# Altium footprint library Connector_Samtec_HPM_THT.PcbLib: 38 footprints (part 1 of 3)
Each footprint in its own frame and in the unit in brackets; x right, y up, seen from the top. Pads: shape width x height; smd on the part's side, far side on the other; paste and mask are expansions set on the pad; w line width, h text height; cw(c..) or ccw(c..) is an arc to the next point about the centre after c.
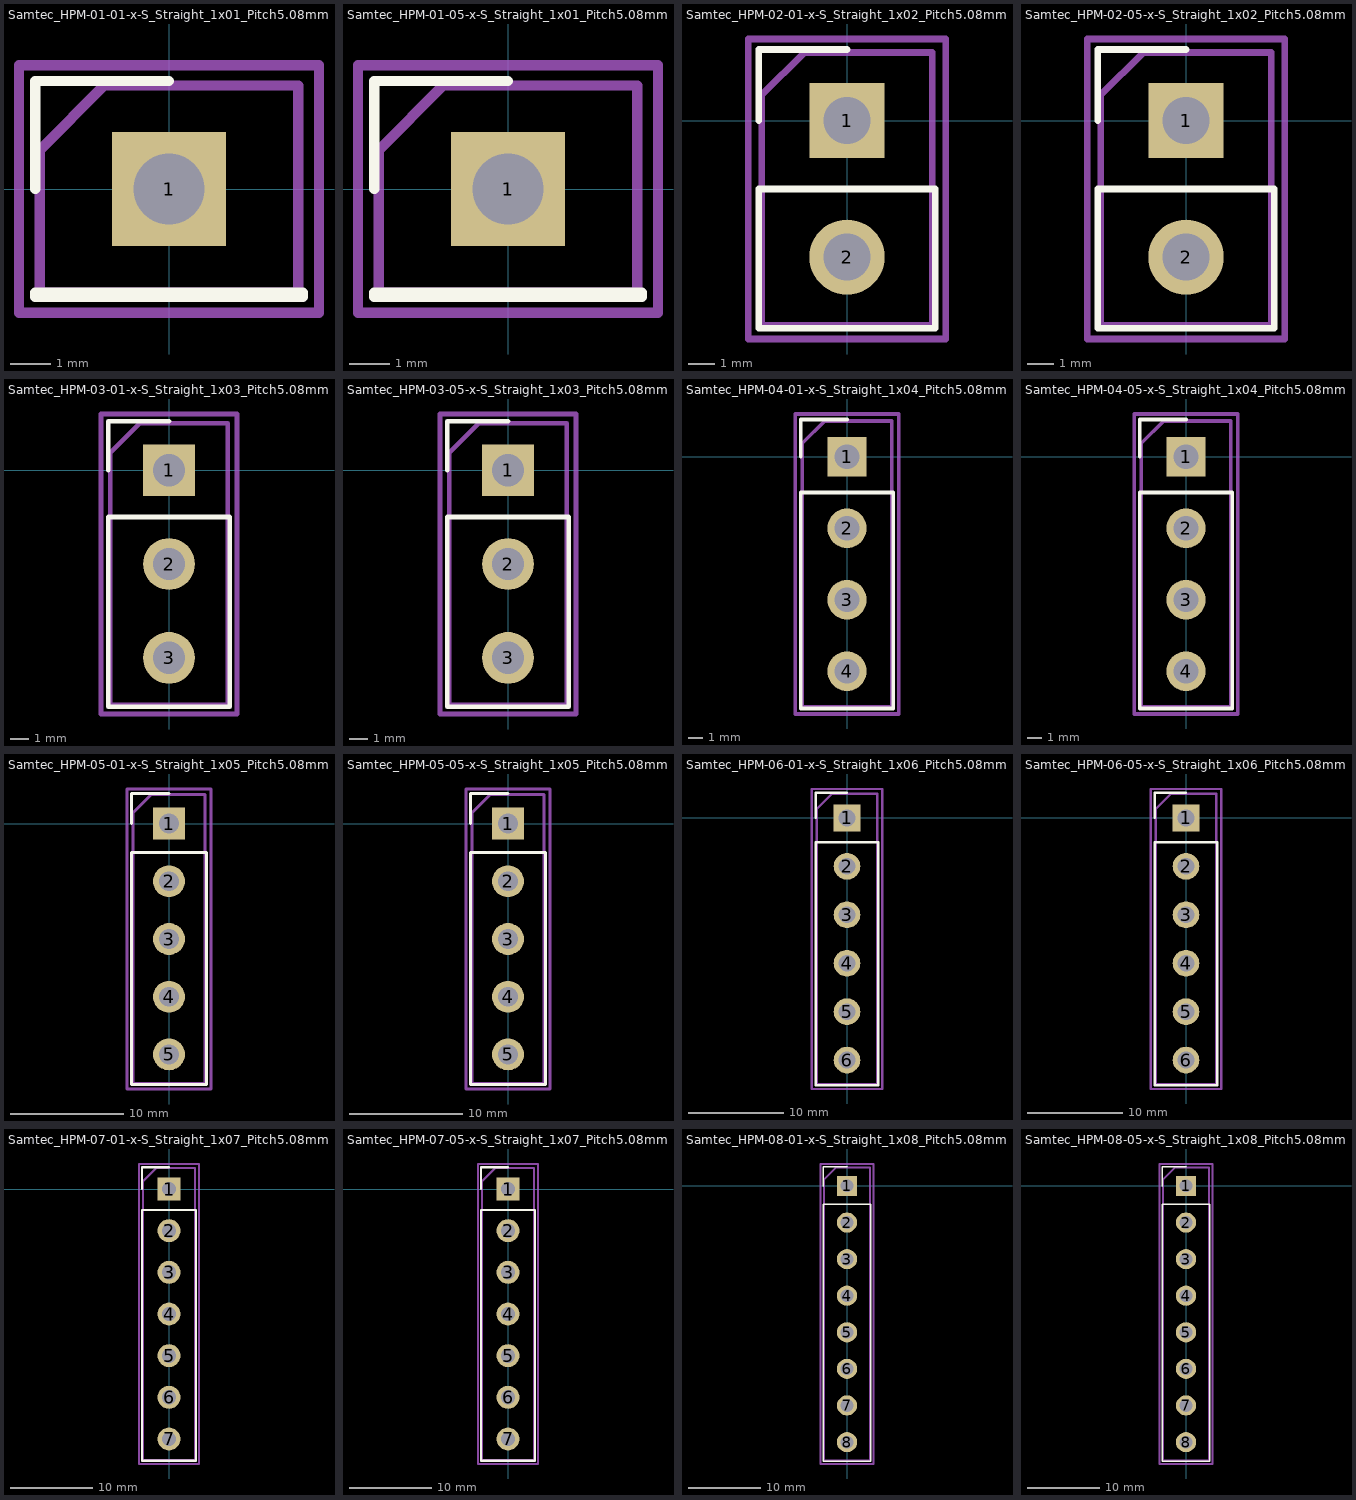
[diagram p0: the footprints below, top view; thin cyan lines are the x and y axes]

## Samtec_HPM-01-01-x-S_Straight_1x01_Pitch5.08mm [mm]
pads (1):
  rect 2.8x2.8 hole 1.75: 1(0,0)
F.SilkS:
  lines w0.254: -3.285,0 -3.285,2.65 0,2.65 ; -3.285,-2.65 -3.285,-2.54 3.285,-2.54 3.285,-2.65 -3.285,-2.65
Top Assembly:
  lines w0.254: -3.175,-2.54 -3.175,0.953 -1.587,2.54 3.175,2.54 3.175,-2.54 -3.175,-2.54
  text "'.Designator'" at 0.84,-4.047 h1
Top Courtyard:
  lines w0.254: -3.68,-3.04 -3.68,3.04 3.68,3.04 3.68,-3.04 -3.68,-3.04
Top Designator:
  text ".Designator" at -7.618,-0.658 h1.52

## Samtec_HPM-01-05-x-S_Straight_1x01_Pitch5.08mm [mm]
pads (1):
  rect 2.8x2.8 hole 1.75: 1(0,0)
F.SilkS:
  lines w0.254: -3.285,0 -3.285,2.65 0,2.65 ; -3.285,-2.65 3.285,-2.65 3.285,-2.54 -3.285,-2.54 -3.285,-2.65
Top Assembly:
  lines w0.254: -3.175,-2.54 3.175,-2.54 3.175,2.54 -1.587,2.54 -3.175,0.953 -3.175,-2.54
  text "'.Designator'" at 0.84,-4.047 h1
Top Courtyard:
  lines w0.254: -3.68,-3.04 3.68,-3.04 3.68,3.04 -3.68,3.04 -3.68,-3.04
Top Designator:
  text ".Designator" at -7.618,-0.658 h1.52

## Samtec_HPM-02-01-x-S_Straight_1x02_Pitch5.08mm [mm]
pads (2):
  rect 2.8x2.8 hole 1.75: 1(0,0)
  round 2.8 hole 1.75: 2(0,-5.08)
F.SilkS:
  lines w0.254: -3.285,0 -3.285,2.65 0,2.65 ; -3.285,-7.73 3.285,-7.73 3.285,-2.54 -3.285,-2.54 -3.285,-7.73
Top Assembly:
  lines w0.254: -3.175,-7.62 3.175,-7.62 3.175,2.54 -1.587,2.54 -3.175,0.953 -3.175,-7.62
  text "'.Designator'" at 0.84,-6.587 h1
Top Courtyard:
  lines w0.254: -3.68,-8.13 3.68,-8.13 3.68,3.04 -3.68,3.04 -3.68,-8.13
Top Designator:
  text ".Designator" at -7.618,-3.053 h1.52

## Samtec_HPM-02-05-x-S_Straight_1x02_Pitch5.08mm [mm]
pads (2):
  rect 2.8x2.8 hole 1.75: 1(0,0)
  round 2.8 hole 1.75: 2(0,-5.08)
F.SilkS:
  lines w0.254: -3.285,0 -3.285,2.65 0,2.65 ; -3.285,-7.73 3.285,-7.73 3.285,-2.54 -3.285,-2.54 -3.285,-7.73
Top Assembly:
  lines w0.254: -3.175,-7.62 3.175,-7.62 3.175,2.54 -1.587,2.54 -3.175,0.953 -3.175,-7.62
  text "'.Designator'" at 0.84,-6.587 h1
Top Courtyard:
  lines w0.254: -3.68,-8.13 3.68,-8.13 3.68,3.04 -3.68,3.04 -3.68,-8.13
Top Designator:
  text ".Designator" at -7.618,-3.053 h1.52

## Samtec_HPM-03-01-x-S_Straight_1x03_Pitch5.08mm [mm]
pads (3):
  rect 2.8x2.8 hole 1.75: 1(0,0)
  round 2.8 hole 1.75: 2(0,-5.08) 3(0,-10.16)
F.SilkS:
  lines w0.254: -3.285,0 -3.285,2.65 0,2.65 ; -3.285,-12.81 3.285,-12.81 3.285,-2.54 -3.285,-2.54 -3.285,-12.81
Top Assembly:
  lines w0.254: -3.175,-12.7 3.175,-12.7 3.175,2.54 -1.587,2.54 -3.175,0.953 -3.175,-12.7
  text "'.Designator'" at 0.84,-9.127 h1
Top Courtyard:
  lines w0.254: -3.68,-13.2 3.68,-13.2 3.68,3.04 -3.68,3.04 -3.68,-13.2
Top Designator:
  text ".Designator" at -7.618,-5.588 h1.52

## Samtec_HPM-03-05-x-S_Straight_1x03_Pitch5.08mm [mm]
pads (3):
  rect 2.8x2.8 hole 1.75: 1(0,0)
  round 2.8 hole 1.75: 2(0,-5.08) 3(0,-10.16)
F.SilkS:
  lines w0.254: -3.285,0 -3.285,2.65 0,2.65 ; -3.285,-12.81 3.285,-12.81 3.285,-2.54 -3.285,-2.54 -3.285,-12.81
Top Assembly:
  lines w0.254: -3.175,-12.7 3.175,-12.7 3.175,2.54 -1.587,2.54 -3.175,0.953 -3.175,-12.7
  text "'.Designator'" at 0.84,-9.127 h1
Top Courtyard:
  lines w0.254: -3.68,-13.2 3.68,-13.2 3.68,3.04 -3.68,3.04 -3.68,-13.2
Top Designator:
  text ".Designator" at -7.618,-5.588 h1.52

## Samtec_HPM-04-01-x-S_Straight_1x04_Pitch5.08mm [mm]
pads (4):
  rect 2.8x2.8 hole 1.75: 1(0,0)
  round 2.8 hole 1.75: 2(0,-5.08) 3(0,-10.16) 4(0,-15.24)
F.SilkS:
  lines w0.254: -3.285,0 -3.285,2.65 0,2.65 ; -3.285,-17.89 3.285,-17.89 3.285,-2.54 -3.285,-2.54 -3.285,-17.89
Top Assembly:
  lines w0.254: -3.175,-17.78 3.175,-17.78 3.175,2.54 -1.587,2.54 -3.175,0.953 -3.175,-17.78
  text "'.Designator'" at 0.84,-11.667 h1
Top Courtyard:
  lines w0.254: -3.68,-18.28 3.68,-18.28 3.68,3.04 -3.68,3.04 -3.68,-18.28
Top Designator:
  text ".Designator" at -7.618,-8.128 h1.52

## Samtec_HPM-04-05-x-S_Straight_1x04_Pitch5.08mm [mm]
pads (4):
  rect 2.8x2.8 hole 1.75: 1(0,0)
  round 2.8 hole 1.75: 2(0,-5.08) 3(0,-10.16) 4(0,-15.24)
F.SilkS:
  lines w0.254: -3.285,0 -3.285,2.65 0,2.65 ; -3.285,-17.89 3.285,-17.89 3.285,-2.54 -3.285,-2.54 -3.285,-17.89
Top Assembly:
  lines w0.254: -3.175,-17.78 3.175,-17.78 3.175,2.54 -1.587,2.54 -3.175,0.953 -3.175,-17.78
  text "'.Designator'" at 0.84,-11.667 h1
Top Courtyard:
  lines w0.254: -3.68,-18.28 3.68,-18.28 3.68,3.04 -3.68,3.04 -3.68,-18.28
Top Designator:
  text ".Designator" at -7.618,-8.128 h1.52

## Samtec_HPM-05-01-x-S_Straight_1x05_Pitch5.08mm [mm]
pads (5):
  rect 2.8x2.8 hole 1.75: 1(0,0)
  round 2.8 hole 1.75: 2(0,-5.08) 3(0,-10.16) 4(0,-15.24) 5(0,-20.32)
F.SilkS:
  lines w0.254: -3.285,0 -3.285,2.65 0,2.65 ; -3.285,-22.97 3.285,-22.97 3.285,-2.54 -3.285,-2.54 -3.285,-22.97
Top Assembly:
  lines w0.254: -3.175,-22.86 3.175,-22.86 3.175,2.54 -1.587,2.54 -3.175,0.953 -3.175,-22.86
  text "'.Designator'" at 0.84,-14.207 h1
Top Courtyard:
  lines w0.254: -3.68,-23.36 3.68,-23.36 3.68,3.04 -3.68,3.04 -3.68,-23.36
Top Designator:
  text ".Designator" at -7.618,-10.668 h1.52

## Samtec_HPM-05-05-x-S_Straight_1x05_Pitch5.08mm [mm]
pads (5):
  rect 2.8x2.8 hole 1.75: 1(0,0)
  round 2.8 hole 1.75: 2(0,-5.08) 3(0,-10.16) 4(0,-15.24) 5(0,-20.32)
F.SilkS:
  lines w0.254: -3.285,0 -3.285,2.65 0,2.65 ; -3.285,-22.97 3.285,-22.97 3.285,-2.54 -3.285,-2.54 -3.285,-22.97
Top Assembly:
  lines w0.254: -3.175,-22.86 3.175,-22.86 3.175,2.54 -1.587,2.54 -3.175,0.953 -3.175,-22.86
  text "'.Designator'" at 0.84,-14.207 h1
Top Courtyard:
  lines w0.254: -3.68,-23.36 3.68,-23.36 3.68,3.04 -3.68,3.04 -3.68,-23.36
Top Designator:
  text ".Designator" at -7.618,-10.668 h1.52

## Samtec_HPM-06-01-x-S_Straight_1x06_Pitch5.08mm [mm]
pads (6):
  rect 2.8x2.8 hole 1.75: 1(0,0)
  round 2.8 hole 1.75: 2(0,-5.08) 3(0,-10.16) 4(0,-15.24) 5(0,-20.32) 6(0,-25.4)
F.SilkS:
  lines w0.254: -3.285,0 -3.285,2.65 0,2.65 ; -3.285,-28.05 3.285,-28.05 3.285,-2.54 -3.285,-2.54 -3.285,-28.05
Top Assembly:
  lines w0.254: -3.175,-27.94 3.175,-27.94 3.175,2.54 -1.587,2.54 -3.175,0.953 -3.175,-27.94
  text "'.Designator'" at 0.84,-16.747 h1
Top Courtyard:
  lines w0.254: -3.68,-28.44 3.68,-28.44 3.68,3.04 -3.68,3.04 -3.68,-28.44
Top Designator:
  text ".Designator" at -7.618,-13.208 h1.52

## Samtec_HPM-06-05-x-S_Straight_1x06_Pitch5.08mm [mm]
pads (6):
  rect 2.8x2.8 hole 1.75: 1(0,0)
  round 2.8 hole 1.75: 2(0,-5.08) 3(0,-10.16) 4(0,-15.24) 5(0,-20.32) 6(0,-25.4)
F.SilkS:
  lines w0.254: -3.285,0 -3.285,2.65 0,2.65 ; -3.285,-28.05 3.285,-28.05 3.285,-2.54 -3.285,-2.54 -3.285,-28.05
Top Assembly:
  lines w0.254: -3.175,-27.94 3.175,-27.94 3.175,2.54 -1.587,2.54 -3.175,0.953 -3.175,-27.94
  text "'.Designator'" at 0.84,-16.747 h1
Top Courtyard:
  lines w0.254: -3.68,-28.44 3.68,-28.44 3.68,3.04 -3.68,3.04 -3.68,-28.44
Top Designator:
  text ".Designator" at -7.618,-13.208 h1.52

## Samtec_HPM-07-01-x-S_Straight_1x07_Pitch5.08mm [mm]
pads (7):
  rect 2.8x2.8 hole 1.75: 1(0,0)
  round 2.8 hole 1.75: 2(0,-5.08) 3(0,-10.16) 4(0,-15.24) 5(0,-20.32) 6(0,-25.4) 7(0,-30.48)
F.SilkS:
  lines w0.254: -3.285,0 -3.285,2.65 0,2.65 ; -3.285,-33.13 3.285,-33.13 3.285,-2.54 -3.285,-2.54 -3.285,-33.13
Top Assembly:
  lines w0.254: -3.175,-33.02 3.175,-33.02 3.175,2.54 -1.587,2.54 -3.175,0.953 -3.175,-33.02
  text "'.Designator'" at 0.84,-19.287 h1
Top Courtyard:
  lines w0.254: -3.68,-33.53 3.68,-33.53 3.68,3.05 -3.68,3.05 -3.68,-33.53
Top Designator:
  text ".Designator" at -7.618,-15.748 h1.52

## Samtec_HPM-07-05-x-S_Straight_1x07_Pitch5.08mm [mm]
pads (7):
  rect 2.8x2.8 hole 1.75: 1(0,0)
  round 2.8 hole 1.75: 2(0,-5.08) 3(0,-10.16) 4(0,-15.24) 5(0,-20.32) 6(0,-25.4) 7(0,-30.48)
F.SilkS:
  lines w0.254: -3.285,0 -3.285,2.65 0,2.65 ; -3.285,-33.13 3.285,-33.13 3.285,-2.54 -3.285,-2.54 -3.285,-33.13
Top Assembly:
  lines w0.254: -3.175,-33.02 3.175,-33.02 3.175,2.54 -1.587,2.54 -3.175,0.953 -3.175,-33.02
  text "'.Designator'" at 0.84,-19.287 h1
Top Courtyard:
  lines w0.254: -3.68,-33.53 3.68,-33.53 3.68,3.05 -3.68,3.05 -3.68,-33.53
Top Designator:
  text ".Designator" at -7.618,-15.748 h1.52

## Samtec_HPM-08-01-x-S_Straight_1x08_Pitch5.08mm [mm]
pads (8):
  rect 2.8x2.8 hole 1.75: 1(0,0)
  round 2.8 hole 1.75: 2(0,-5.08) 3(0,-10.16) 4(0,-15.24) 5(0,-20.32) 6(0,-25.4) 7(0,-30.48) 8(0,-35.56)
F.SilkS:
  lines w0.254: -3.285,0 -3.285,2.65 0,2.65 ; -3.285,-38.21 3.285,-38.21 3.285,-2.54 -3.285,-2.54 -3.285,-38.21
Top Assembly:
  lines w0.254: -3.175,-38.1 3.175,-38.1 3.175,2.54 -1.587,2.54 -3.175,0.953 -3.175,-38.1
  text "'.Designator'" at 0.84,-21.827 h1
Top Courtyard:
  lines w0.254: -3.68,-38.6 3.68,-38.6 3.68,3.04 -3.68,3.04 -3.68,-38.6
Top Designator:
  text ".Designator" at -7.618,-18.288 h1.52

## Samtec_HPM-08-05-x-S_Straight_1x08_Pitch5.08mm [mm]
pads (8):
  rect 2.8x2.8 hole 1.75: 1(0,0)
  round 2.8 hole 1.75: 2(0,-5.08) 3(0,-10.16) 4(0,-15.24) 5(0,-20.32) 6(0,-25.4) 7(0,-30.48) 8(0,-35.56)
F.SilkS:
  lines w0.254: -3.285,0 -3.285,2.65 0,2.65 ; -3.285,-38.21 3.285,-38.21 3.285,-2.54 -3.285,-2.54 -3.285,-38.21
Top Assembly:
  lines w0.254: -3.175,-38.1 3.175,-38.1 3.175,2.54 -1.587,2.54 -3.175,0.953 -3.175,-38.1
  text "'.Designator'" at 0.84,-21.827 h1
Top Courtyard:
  lines w0.254: -3.68,-38.6 3.68,-38.6 3.68,3.04 -3.68,3.04 -3.68,-38.6
Top Designator:
  text ".Designator" at -7.618,-18.288 h1.52